# Altium footprint library 54101S0803LF.PcbLib: 1 footprints
Each footprint in its own frame and in the unit in brackets; x right, y up, seen from the top. Pads: shape width x height; smd on the part's side, far side on the other; paste and mask are expansions set on the pad; w line width, h text height; cw(c..) or ccw(c..) is an arc to the next point about the centre after c.
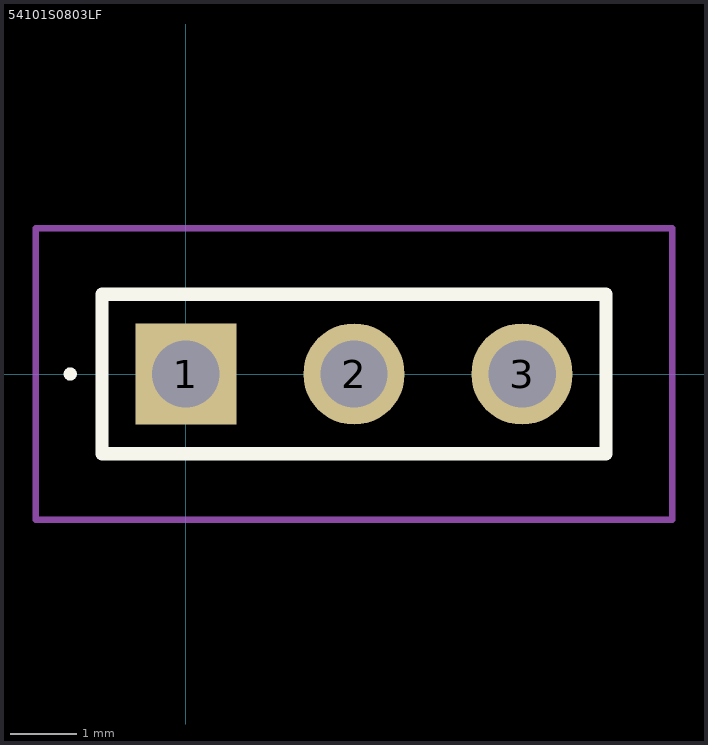
[diagram p0: the footprint, top view; thin cyan lines are the x and y axes]

## 54101S0803LF [mm]
pads (3):
  rect 1.53x1.53 hole 1.02: 1(0,0)
  round 1.53 hole 1.02: 2(2.54,0) 3(5.08,0)
Top Overlay:
  lines w0.1: -1.8,0 -1.8,0 ; -1.8,0 ccw(c-1.75,0) -1.7,0 ; -1.8,0 cw(c-1.75,0) -1.7,0 ; -1.7,0 -1.7,0
  lines w0.2: -1.27,-1.205 6.35,-1.205 6.35,1.205 -1.27,1.205 -1.27,-1.205
Mechanical 15:
  lines w0.1: -1.27,-1.205 6.35,-1.205 6.35,1.205 -1.27,1.205 -1.27,-1.205
Mechanical 20:
  lines w0.1: -2.27,-2.205 7.35,-2.205 7.35,2.205 -2.27,2.205 -2.27,-2.205